# Altium footprint library Connector.PcbLib: 159 footprints (part 9 of 10)
Each footprint in its own frame and in the unit in brackets; x right, y up, seen from the top. Pads: shape width x height; smd on the part's side, far side on the other; paste and mask are expansions set on the pad; w line width, h text height; cw(c..) or ccw(c..) is an arc to the next point about the centre after c.
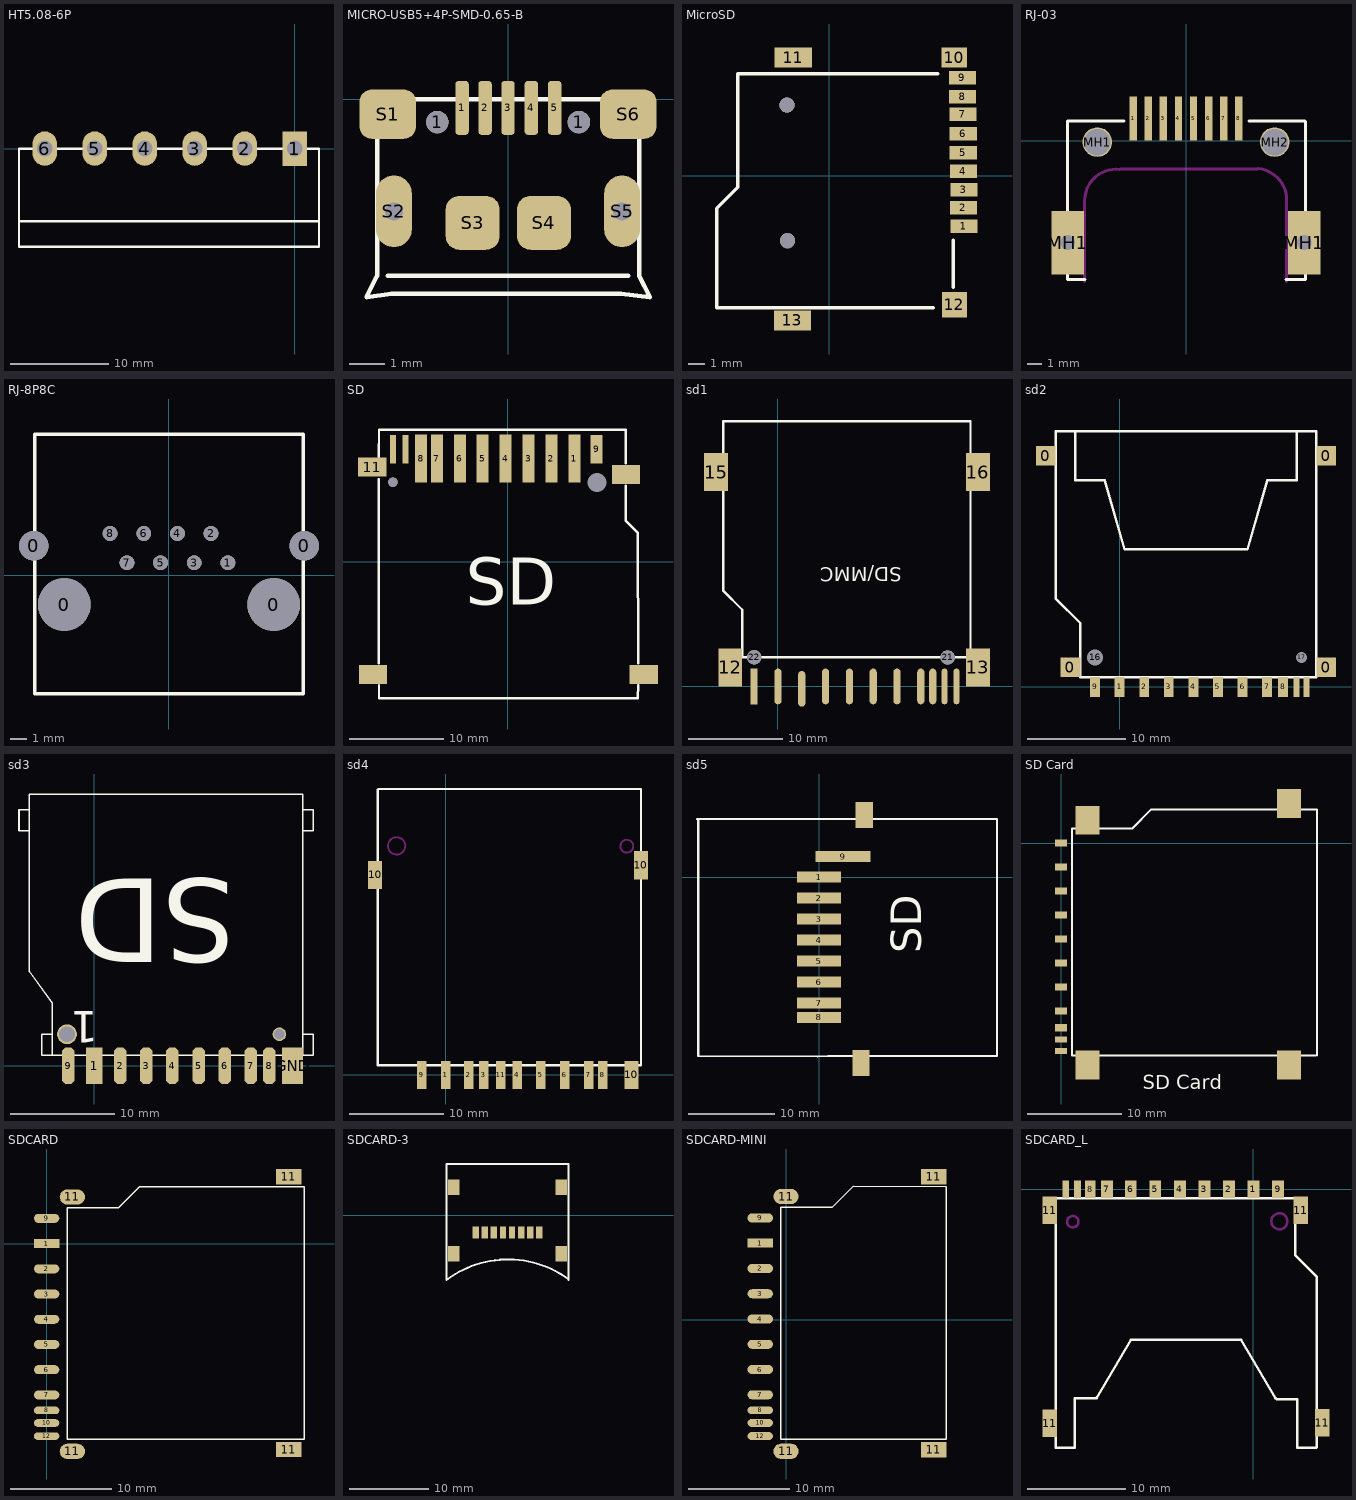
[diagram p8: the footprints below, top view; thin cyan lines are the x and y axes]

## HT5.08-6P [mm]
pads (6):
  rect 2.5x3.5 hole 1.6: 1(0,0)
  oval 2.5x3.5 hole 1.6: 2(-5.08,0) 3(-10.16,0) 4(-15.24,0) 5(-20.32,0) 6(-25.4,0)
Top Overlay:
  lines w0.254: -28.025,-4.318 -28.025,-9.975 2.475,-9.975 2.475,-4.191 ; -28.025,-7.4 2.475,-7.4 2.475,0 -28.025,0 -28.025,-7.4

## MICRO-USB5+4P-SMD-0.65-B [mil] "MICRO-USB5+4P-SMD-0.65-B"
pads (13):
  round 25 hole 25: 1(-78.74,-25.59) 1(79,-25.59)
  rrect50% 15x60 smd: 1(-51.18,-9.84) 2(-25.59,-9.84) 3(0,-9.84) 4(26,-9.84) 5(52,-9.84)
  rrect50% 63x55 smd: S1(-133.86,-16.81) S6(134,-16.81)
  oval 40x80 hole 20: S2(-127,-125) S5(127,-125)
  rrect50% 60x60 smd: S3(-39.37,-137.8) S4(40,-137.8)
Mid-Layer 1:
  pour cut-out: 127,-75.75 134.57,-76.75 141.63,-79.67 147.68,-84.32 152.33,-90.37 155.25,-97.43 156.25,-105 156,-105 156.25,-145 155.25,-152.57 152.33,-159.63 147.68,-165.68 141.63,-170.33 134.57,-173.25 127,-174.25 119.43,-173.25 112.37,-170.33 106.32,-165.68 101.67,-159.63 98.75,-152.57 97.75,-145 98,-145 97.75,-105 98.75,-97.43 101.67,-90.37 106.32,-84.32 112.37,-79.67 119.43,-76.75
  pour cut-out: -127,-75.75 -119.43,-76.75 -112.37,-79.67 -106.32,-84.32 -101.67,-90.37 -98.75,-97.43 -97.75,-105 -98,-105 -98,-138 -97.75,-145 -98.75,-152.57 -101.67,-159.63 -106.32,-165.68 -112.37,-170.33 -119.43,-173.25 -127,-174.25 -134.57,-173.25 -141.63,-170.33 -147.68,-165.68 -152.33,-159.63 -155.25,-152.57 -156.25,-145 -156,-145 -156,-107 -156.25,-105 -155.25,-97.43 -152.33,-90.37 -147.68,-84.32 -141.63,-79.67 -134.57,-76.75
Mid-Layer 14:
  pour cut-out: 127,-75.75 134.57,-76.75 141.63,-79.67 147.68,-84.32 152.33,-90.37 155.25,-97.43 156.25,-105 156,-105 156.25,-145 155.25,-152.57 152.33,-159.63 147.68,-165.68 141.63,-170.33 134.57,-173.25 127,-174.25 119.43,-173.25 112.37,-170.33 106.32,-165.68 101.67,-159.63 98.75,-152.57 97.75,-145 98,-145 97.75,-105 98.75,-97.43 101.67,-90.37 106.32,-84.32 112.37,-79.67 119.43,-76.75
  pour cut-out: -127,-75.75 -119.43,-76.75 -112.37,-79.67 -106.32,-84.32 -101.67,-90.37 -98.75,-97.43 -97.75,-105 -98,-105 -97.75,-145 -98.75,-152.57 -101.67,-159.63 -106.32,-165.68 -112.37,-170.33 -119.43,-173.25 -127,-174.25 -134.57,-173.25 -141.63,-170.33 -147.68,-165.68 -152.33,-159.63 -155.25,-152.57 -156.25,-145 -156,-145 -156.25,-105 -155.25,-97.43 -152.33,-90.37 -147.68,-84.32 -141.63,-79.67 -134.57,-76.75
Top Overlay:
  lines w5: -133.86,-196.85 134,-196.85 ; -157.48,-220.47 -129.92,-216.54 126,-216.54 158,-220.47 146,-196.85 146,0 -145.67,0 -145.67,-196.85 -157.48,-220.47
Top Paste:
  region: 108,-145 107.61,-105 109.16,-97.2 113.58,-90.58 120.2,-86.16 128,-84.61 135.8,-86.16 142.42,-90.58 146.84,-97.2 148.39,-105 148,-105 148.39,-145 146.84,-152.8 142.42,-159.42 135.8,-163.84 128,-165.39 120.2,-163.84 113.58,-159.42 109.16,-152.8 107.61,-145
  region: -107.5,-105 -107.11,-145 -108.66,-152.8 -113.08,-159.42 -119.7,-163.84 -127.5,-165.39 -135.3,-163.84 -141.92,-159.42 -146.34,-152.8 -147.89,-145 -147.5,-145 -147.89,-105 -146.34,-97.2 -141.92,-90.58 -135.3,-86.16 -127.5,-84.61 -119.7,-86.16 -113.08,-90.58 -108.66,-97.2 -107.11,-105
Mechanical 2:
Mechanical 4:
Mechanical 11:
  lines w20: -127,-140 -127,-110 ; 127,-140 127,-110
Mechanical 14:
  lines w20: -127,-139.96 -127,-109.96 ; 127,-139.96 127,-109.96

## MicroSD [mm]
pads (15):
  rect 1.6x0.8 smd: 1(7.972,-3.009) 2(7.95,-1.898) 3(7.972,-0.84) 4(7.95,0.25) 5(7.94,1.351) 6(7.94,2.473) 7(7.919,3.616) 8(7.908,4.674) 9(7.887,5.785)
  rect 1.5x1.2 smd: 10(7.4,6.981)
  rect 2.2x1.2 smd: 11(-2.125,6.981) 13(-2.167,-8.576)
  rect 1.5x1.5 smd: 12(7.421,-7.645)
  round 0.9 hole 0.9: ""(-2.495,4.166) ""(-2.464,-3.856)
Top Overlay:
  lines w0.2: 6.177,-7.835 -6.653,-7.835 -6.653,-1.951 -5.404,-0.702 -5.404,6.029 6.449,6.029 ; 7.359,-6.607 7.359,-3.834

## RJ-03 [mm]
height 8.6
pads (12):
  rect 0.5x3 smd: 1(-3.57,1.5) 2(-2.55,1.5) 3(-1.53,1.5) 4(-0.51,1.5) 5(0.51,1.5) 6(1.53,1.5) 7(2.55,1.5) 8(3.57,1.5)
  rect 2.2x4.3 hole 1 unplated: MH1(-8,-6.9) MH1(8,-6.9)
  round 2 hole 1.8 unplated: MH1(-6,-0.1) MH2(6,-0.1)
Top Overlay:
  lines w0.203: -8.02,1.325 -8.03,-9.4 -6.825,-9.4 ; -8,1.325 -4.2,1.325 ; 4.25,1.325 8.05,1.325 8.075,1.3 8.075,-9.4 6.775,-9.4
Keep-Out Layer:
  lines w0.203: -6.875,-9.55 -6.875,-3.96 ; -6.85,-3.85 cw(c-4.72,-4.075) -4.495,-1.945 ; -4.445,-1.905 4.85,-1.905 ; 4.895,-1.895 cw(c4.67,-4.025) 6.8,-4.25 ; 6.8,-9.525 6.8,-4.062

## RJ-8P8C [mm]
pads (12):
  round 1.8 hole 1.8: 0(-8.2,1.78) 0(8.2,1.78)
  round 3.2 hole 3.2: 0(-6.35,-1.78) 0(6.35,-1.78)
  round 0.9 hole 0.9: 1(3.57,0.76) 2(2.55,2.54) 3(1.53,0.76) 4(0.51,2.54) 5(-0.51,0.76) 6(-1.53,2.54) 7(-2.55,0.76) 8(-3.57,2.54)
Top Overlay:
  lines w0.203: -8.15,-7.18 8.15,-7.18 8.15,8.545 -8.15,8.545 -8.15,-7.18

## SD [mm]
pads (17):
  rect 1.27x5.08 smd: 1(7.04,10.95) 2(4.61,10.95) 3(2.18,10.95) 4(-0.25,10.95) 5(-2.68,10.95) 6(-5.11,10.95) 7(-7.54,10.95) 8(-9.2,10.95)
  rect 1.27x3 smd: 9(9.4,11.95)
  rect 0.635x3 smd: 10(-10.86,11.938) 12(-12.192,11.938)
  rect 3x2 smd: 11(-14.4,10.05) ""(-14.3,-11.95) ""(12.5,9.25) ""(14.4,-11.95)
  round 1 hole 1: ""(-12.2,8.45)
  round 1.5 hole 2: ""(9.444,8.41)
Top Overlay:
  lines w0.254: -13.7,-10.75 -13.7,8.75 ; -13.7,11.15 -13.67,13.998 12.492,13.998 12.5,10.45 ; -13.67,-13.05 -13.67,-14.45 13.762,-14.45 13.8,-13.05 ; 12.5,8.05 12.492,4.346 13.762,3.076 13.8,-10.75
  text "SD" at -4.5,-4.55 h5
3D body: height 2.13, standoff 0, extent -13.589,-14.351 13.843,13.97

## sd1 [mil]
pads (17):
  oval 30x150 smd: 1(0,0) 2(100,-10) 3(200,0) 4(300,0) 5(400,0) 6(500,0) 7(600,0) 8(650,0)
  rect 30x150 smd: 9(-100,0)
  oval 25x150 smd: 10(700,0) 11(750,0)
  rect 100x160 smd: 12(-200,80) 13(840,80) 15(-260,900) 16(840,900)
  round 60 hole 60: 21(712.6,122.05) 22(-100,122.44)
Top Overlay:
  lines w10: 808.66,122.83 808.66,1113.78 -230.31,1113.78 -230.31,402.76 -150,322.44 ; 809.06,122.44 -150,122.44 -150,322.44 ; -150,322.44 -150,322.44
  text "SD/MMC" at 520,500 h60

## sd2 [mm]
pads (17):
  rect 2x2 smd: 0(-7.5,23.5) 0(-5,2) 0(21,2) 0(21,23.5)
  rect 1x2 smd: 1(0,0) 2(2.5,0) 3(5,0) 4(7.5,0) 5(10,0) 6(12.5,0) 7(15,0) 8(16.625,0) 9(-2.5,0)
  rect 0.6x2 smd: 10(19,0) 11(18,0)
  round 1.5 hole 1.6: 16(-2.5,3)
  round 1 hole 1.1: 17(18.5,3)
Top Overlay:
  lines w0.254: -4.5,26 -4.5,21 -1.5,21 0.5,14 13,14 15,21 18,21 18,26 ; -6.5,9 -4,6.5 -4,1 20,1 20,26 -6.5,26 -6.5,9

## sd3 [mm]
pads (12):
  rect 1.6x3.5 smd: 1(0,0)
  oct 1.2x3.5 smd: 2(2.5,0) 3(5,0) 4(7.5,0) 5(10,0) 6(12.5,0) 7(15,0) 8(16.75,0) 9(-2.5,0)
  rect 2x3.5 smd: GND(19,0)
  round 1.9 on Top hole 1.5: ""(-2.6,3)
  round 1.3 on Top hole 1: ""(17.75,3)
Top Overlay:
  lines w0.15: -6.2,22.5 -7.2,22.5 -7.2,24.5 -6.2,24.5 ; -4,1 -4,6 -6.2,9 -6.2,26 20,26 20,1 ; -4,3 -5,3 -5,1 21,1 21,3 20,3 ; 20,22.5 21,22.5 21,24.5 20,24.5
  text "SD" at 13.538,17.907 h8
  text "1" at 0.381,5.182 h3.05

## sd4 [mm]
pads (13):
  rect 1x3 smd: 1(0,0) 2(2.464,0.001) 3(4.064,0) 4(7.608,0.001) 5(10.148,0.001) 6(12.688,0.001) 7(15.228,0.001) 8(16.752,0.001) 9(-2.54,0) 11(5.864,0.001)
  rect 1.5x3 smd: 10(-7.536,21.316) 10(19.8,0.001) 10(20.816,22.353)
Top Overlay:
  lines w0.254: -7.236,1 -7.236,2.016 -7.236,5.064 ; -7.236,1.016 17.164,1.016 ; -7.236,5.116 -7.236,29.516 ; -7.236,29.416 -7.236,30.416 ; -7.136,30.481 17.264,30.481 ; 16.752,1.017 19.8,1.017 20.816,1.017 20.816,2.033 20.816,5.081 20.816,29.481 20.816,30.481 19.8,30.481 16.752,30.481
Keep-Out Layer:
  circle w0.2: c19.304,24.384 r0.687
  circle w0.2: c-5.236,24.416 r0.922

## sd5 [mm]
pads (11):
  rect 5.08x1.27 smd: 1(0,0) 2(0,-2.421) 3(0,-4.851) 4(0,-7.281) 5(0,-9.711) 6(0,-12.141) 7(0,-14.571) 8(0,-16.231)
  rect 6.35x1.27 smd: 9(2.778,2.369)
  rect 2x3 smd: ""(4.846,-21.509) ""(5.227,7.193)
Top Overlay:
  lines w0.254: 20.537,-20.685 1.037,-20.685 -0.2,-20.731 -13.97,-20.701 -13.97,5.461 -13.97,6.578 -14.123,6.731 7.874,6.731 20.574,6.731 20.574,-20.701
  text "SD" at 11.831,-8.809 h3.52

## SD Card [mil]
pads (15):
  rect 50x30 smd: 1(0,-100) 2(0,-200) 3(0,-300) 4(0,-400) 5(0,-500) 6(0,-600) 7(0,-700) 8(0,-770) 9(0,0)
  rect 50x25 smd: 10(0,-819.32) 11(0,-866.14)
  rect 100x120 smd: ""(110,-925) ""(110,95) ""(950,-925) ""(950,165)
Top Overlay:
  lines w8: 45,-885 45,60 295,60 375,140 395,140 ; 50,-885 1060,-885 ; 380,140 1065,140 1065,-885
  text "SD Card" at 340,-1025 h60
3D body: height 83.86, standoff 0, extent 45,-880 1065,140

## SDCARD [mil]
pads (15):
  rect 98.42x35 smd: 1(0,0)
  oval 98.43x35 smd: 2(0,-98) 3(0,-196) 4(0,-294) 5(0,-392) 6(0,-490) 7(0,-588) 9(0,98)
  oval 98.42x30 smd: 8(0,-648) 10(0,-697) 12(0,-748)
  oval 98.42x59.05 smd: 11(100,-807.09) 11(100,181.1)
  rect 98.42x59.05 smd: 11(940,-800) 11(940,260)
Top Overlay:
  lines w6: 220,140 80,140 ; 780,220 1000,220 1000,-760 880,-760 ; 900,-760 80,-760 80,140 ; 900,220 360,220 280,140 80,140

## SDCARD-3 [mm]
pads (12):
  rect 0.8x1.5 smd: 1(32.639,-2.159) 2(31.496,-2.159) 3(30.353,-2.159) 4(29.21,-2.159) 5(28.067,-2.159) 6(26.924,-2.159) 7(25.781,-2.159) 8(24.638,-2.159)
  rect 1.45x2 smd: ""(21.844,-4.826) ""(21.844,3.556) ""(35.433,-4.826) ""(35.433,3.556)
Top Overlay:
  lines w0.254: 36.246,-7.979 ccw(c28.702,-18.415) 20.955,-8.128 20.955,6.477 36.322,6.477 36.322,-8.128

## SDCARD-MINI [mm] "小型的SD卡插座"
height 3.2
pads (15):
  rect 2.5x0.889 smd: 1(-2.54,7.518)
  oval 2.5x0.889 smd: 2(-2.54,5.029) 3(-2.54,2.54) 4(-2.54,0.051) 5(-2.54,-2.438) 6(-2.54,-4.928) 7(-2.54,-7.417) 9(-2.54,10.008)
  oval 2.5x0.762 smd: 8(-2.54,-8.941) 10(-2.54,-10.185) 12(-2.54,-11.481)
  oval 2.5x1.5 smd: 11(0,-12.982) 11(0,12.118)
  rect 2.5x1.5 smd: 11(14.55,-12.82) 11(14.55,14.07)
Top Layer:
  lines w0.254: -0.001,12.372 0.001,11.864
Top Overlay:
  lines w0.152: 3.048,11.074 -0.508,11.074 ; -0.508,11.074 -0.508,-11.786 15.761,-11.811 15.761,13.081 6.604,13.106 4.572,11.074 -0.508,11.074

## SDCARD_L [mm]
pads (15):
  rect 1.2x1.8 smd: 1(0,0) 2(-2.489,0) 3(-4.983,-0.009) 4(-7.483,-0.009) 5(-9.983,-0.009) 6(-12.483,-0.009) 7(-14.908,-0.009) 9(2.517,-0.009)
  rect 1.1x1.8 smd: 8(-16.612,0)
  rect 0.7x1.8 smd: 10(-17.908,-0.009) 12(-19.101,0)
  rect 1.5x2.8 smd: 11(-20.726,-23.834) 11(-20.726,-2.143) 11(4.826,-2.143) 11(7.01,-23.784)
Top Overlay:
  lines w0.254: -18.158,-21.3 -18.158,-26.3 -20.131,-26.3 -20.131,-0.914 -20.117,-0.9 4.242,-0.9 4.242,-6.71 6.431,-8.899 6.442,-8.899 6.442,-26.273 6.415,-26.3 4.442,-26.3 4.442,-21.402 2.4,-21.402 2.242,-21.244 ; -18.107,-21.294 -16.065,-21.294 -15.907,-21.136 ; -15.958,-21.294 -12.446,-15.3 ; -12.458,-15.3 -1.258,-15.3 2.242,-21.294
Keep-Out Layer:
  circle w0.254: c2.642,-3.26 r0.82
  circle w0.254: c-18.39,-3.3 r0.58